# Altium integrated library A_Semi.IntLib: 68 symbols
Pins are listed as number, name and electrical type; pins without a type are passive.

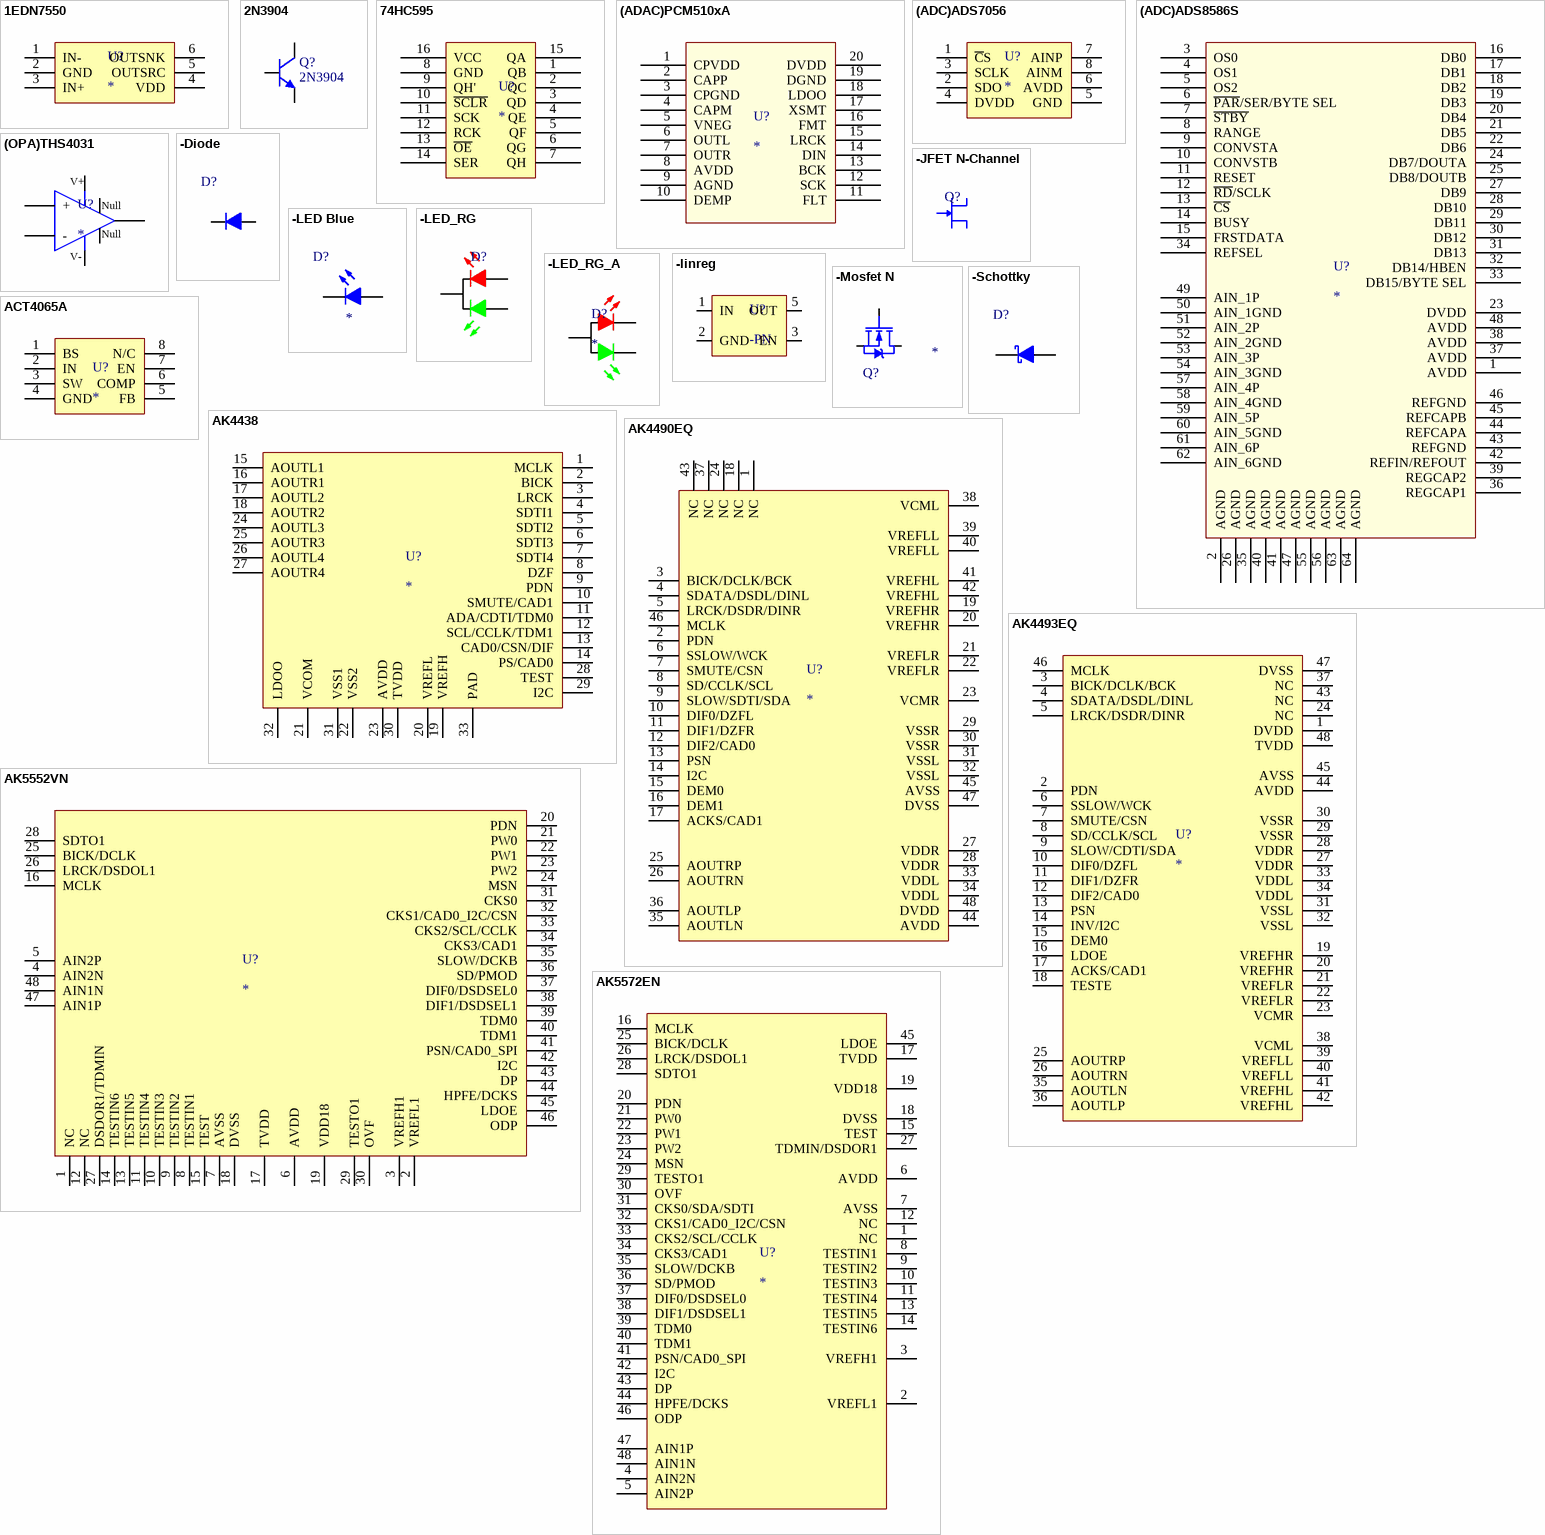
[diagram p0: symbols 1EDN7550 to AK5572EN]

## 1EDN7550
designator U?
footprint SOT23-6 (SOT23, 6-Leads, Body 2.90x2.80mm, Pitch 0.95mm, IPC Medium Density)
pins: 1 IN-, 2 GND, 3 IN+, 4 VDD, 5 OUTSRC, 6 OUTSNK

## 2N3904
designator Q?
NPN General Purpose Amplifier; Published: 8-Jun-2000; LatestRevisionDate: 15-Jan-2003; LatestRevisionNote: PCB Footprint 'BCY-W3/D4.7' replaced; DatasheetVersion: 1997; PackageVersion: Sep-1998; PackageReference: TO-92A; Publisher: Altium Limited; PackageDescription: TO, Flat Index; 3 In-Line, Axial Leads; Body Dia. 4.5mm; Leads 0.51 x 0.48 mm (max); ComponentLink1Description: Manufacturer Link; ComponentLink1URL: http://www.fairchildsemi.com/; ComponentLink2Description: Datasheet; ComponentLink2URL: http://www.fairchildsemi.com/ds/2N%2F2N3904.pdf
footprint TO-92A (TO, Flat Index; 3 In-Line, Axial Leads; Body Dia. 4.5mm; Leads 0.51 x 0.48 mm (max))
simulation model 2N3904 (NPN)
signal-integrity model 2N3904
footprint SOT95P245X110-3N (SOT23, 3-Leads, Body 2.90x2.45mm, Pitch 0.95mm, IPC Medium Density)
pins: 1 B, 2 E, 3 C

## 74HC595
designator U?
footprint SOIC127P600X175-16N (SOIC, 16-Leads, Body 9.90x3.90mm, Pitch 1.27mm, IPC Medium Density)
pins: 1 QB, 2 QC, 3 QD, 4 QE, 5 QF, 6 QG, 7 QH, 8 GND, 9 QH', 10 ~{SCLR}, 11 SCK, 12 RCK, 13 ~{OE}, 14 SER, 15 QA, 16 VCC

## (ADAC)PCM510xA
designator U?
footprint 20TSSOP
pins: 1 CPVDD, 2 CAPP, 3 CPGND, 4 CAPM, 5 VNEG, 6 OUTL, 7 OUTR, 8 AVDD, 9 AGND, 10 DEMP, 11 FLT, 12 SCK, 13 BCK, 14 DIN, 15 LRCK, 16 FMT, 17 XSMT, 18 LDOO, 19 DGND, 20 DVDD

## (ADC)ADS7056
designator U?
pins: 1 ~{C}S, 2 SDO, 3 SCLK, 4 DVDD, 5 GND, 6 AVDD, 7 AINP, 8 AINM

## (ADC)ADS8586S
designator U?
footprint 64QFP
pins: 1 AVDD, 2 AGND, 3 OS0, 4 OS1, 5 OS2, 6 ~{PAR}/SER/BYTE SEL, 7 ~{STBY}, 8 RANGE, 9 CONVSTA, 10 CONVSTB, 11 RESET, 12 ~{RD}/SCLK, 13 ~{CS}, 14 BUSY, 15 FRSTDATA, 16 DB0, 17 DB1, 18 DB2, 19 DB3, 20 DB4, 21 DB5, 22 DB6, 23 DVDD, 24 DB7/DOUTA, 25 DB8/DOUTB, 26 AGND, 27 DB9, 28 DB10, 29 DB11, 30 DB12, 31 DB13, 32 DB14/HBEN, 33 DB15/BYTE SEL, 34 REFSEL, 35 AGND, 36 REGCAP1, 37 AVDD, 38 AVDD, 39 REGCAP2, 40 AGND, 41 AGND, 42 REFIN/REFOUT, 43 REFGND, 44 REFCAPA, 45 REFCAPB, 46 REFGND, 47 AGND, 48 AVDD, 49 AIN_1P, 50 AIN_1GND, 51 AIN_2P, 52 AIN_2GND, 53 AIN_3P, 54 AIN_3GND, 55 AGND, 56 AGND, 57 AIN_4P, 58 AIN_4GND, 59 AIN_5P, 60 AIN_5GND, 61 AIN_6P, 62 AIN_6GND, 63 AGND, 64 AGND

## (OPA)THS4031
designator U?
pins: 1, 2 -, 3 +, 4, 6, 7, 8
text: V+; Null; V-

## -Diode
designator D?
Generic Diode; Label: *
footprint SMini2-F5-B (Diode) (Panasonic Schottky Diode)
footprint SOD80 (MiniMELF)
footprint DO204
pins: 1 K, 2 A

## -JFET N-Channel
designator Q?
footprint SOT95P245X110-3N (SOT23, 3-Leads, Body 2.90x2.45mm, Pitch 0.95mm, IPC Medium Density)
pins: 1 D, 2 S, 3 G

## -LED Blue
designator D?
Label: *
footprint LTL1CHTBK5
pins: 1 A, 2 K

## -LED_RG
designator D?
R,G LED; Label: *
footprint LTL1BEKVJNN (Common Cathode R/G LED)
pins: 1 A, 2 K, 3 A

## -LED_RG_A
designator D?
footprint LTST-S326KGJRKT
pins: 1 K, 2 K, 3 A

## -linreg
designator U?, comment -PN
PN: *
footprint SOT23-5 (SOT23, 5-Leads, Body 2.90x2.80mm, Pitch 0.95mm, IPC Medium Density)
pins: 1 IN, 2 GND, 3 EN, 5 OUT

## -Mosfet N
designator Q?
N-Channel Mosfet; Value: *
footprint SOT95P245X110-3N (SOT23, 3-Leads, Body 2.90x2.45mm, Pitch 0.95mm, IPC Medium Density)
footprint SOT23-3
pins: 1 G, 2 S, 3 D

## -Schottky
designator D?
Generic Diode; Label: *
footprint SMini2-F5-B (Diode) (Panasonic Schottky Diode)
pins: 1 K, 2 A

## ACT4065A
designator U?
footprint SOIC127P600X175-8N (SOIC, 8-Leads, Body 4.95x3.90mm, Pitch 1.27mm, IPC Medium Density)
pins: 1 BS, 2 IN, 3 SW, 4 GND, 5 FB, 6 COMP, 7 EN, 8 N/C

## AK4438
designator U?
footprint QFN50P500X500X80_HS-33M (QFN, 32-Leads, Body 5.00x5.00mm, Pitch 0.50mm, Thermal Pad 3.50x3.50mm, IPC Low Density)
pins: 1 MCLK, 2 BICK, 3 LRCK, 4 SDTI1, 5 SDTI2, 6 SDTI3, 7 SDTI4, 8 DZF, 9 PDN, 10 SMUTE/CAD1, 11 ADA/CDTI/TDM0, 12 SCL/CCLK/TDM1, 13 CAD0/CSN/DIF, 14 PS/CAD0, 15 AOUTL1, 16 AOUTR1, 17 AOUTL2, 18 AOUTR2, 19 VREFH, 20 VREFL, 21 VCOM, 22 VSS2, 23 AVDD, 24 AOUTL3, 25 AOUTR3, 26 AOUTL4, 27 AOUTR4, 28 TEST, 29 I2C, 30 TVDD, 31 VSS1, 32 LDOO, 33 PAD

## AK4490EQ
designator U?
footprint QFN50P700X700X85_HS-49M-noTH (QFN, 48-Leads, Body 7.00x7.00mm, Pitch 0.50mm, Thermal Pad 5.10x5.10mm, IPC Low Density)
pins: 1 NC, 2 PDN, 3 BICK/DCLK/BCK, 4 SDATA/DSDL/DINL, 5 LRCK/DSDR/DINR, 6 SSLOW/WCK, 7 SMUTE/CSN, 8 SD/CCLK/SCL, 9 SLOW/SDTI/SDA, 10 DIF0/DZFL, 11 DIF1/DZFR, 12 DIF2/CAD0, 13 PSN, 14 I2C, 15 DEM0, 16 DEM1, 17 ACKS/CAD1, 18 NC, 19 VREFHR, 20 VREFHR, 21 VREFLR, 22 VREFLR, 23 VCMR, 24 NC, 25 AOUTRP, 26 AOUTRN, 27 VDDR, 28 VDDR, 29 VSSR, 30 VSSR, 31 VSSL, 32 VSSL, 33 VDDL, 34 VDDL, 35 AOUTLN, 36 AOUTLP, 37 NC, 38 VCML, 39 VREFLL, 40 VREFLL, 41 VREFHL, 42 VREFHL, 43 NC, 44 AVDD, 45 AVSS, 46 MCLK, 47 DVSS, 48 DVDD

## AK4493EQ
designator U?
footprint QFP127P600-8N
pins: 1 DVDD, 2 PDN, 3 BICK/DCLK/BCK, 4 SDATA/DSDL/DINL, 5 LRCK/DSDR/DINR, 6 SSLOW/WCK, 7 SMUTE/CSN, 8 SD/CCLK/SCL, 9 SLOW/CDTI/SDA, 10 DIF0/DZFL, 11 DIF1/DZFR, 12 DIF2/CAD0, 13 PSN, 14 INV/I2C, 15 DEM0, 16 LDOE, 17 ACKS/CAD1, 18 TESTE, 19 VREFHR, 20 VREFHR, 21 VREFLR, 22 VREFLR, 23 VCMR, 24 NC, 25 AOUTRP, 26 AOUTRN, 27 VDDR, 28 VDDR, 29 VSSR, 30 VSSR, 31 VSSL, 32 VSSL, 33 VDDL, 34 VDDL, 35 AOUTLN, 36 AOUTLP, 37 NC, 38 VCML, 39 VREFLL, 40 VREFLL, 41 VREFHL, 42 VREFHL, 43 NC, 44 AVDD, 45 AVSS, 46 MCLK, 47 DVSS, 48 TVDD

## AK5552VN
designator U?
footprint QFN50P700X700X85_HS-49M (QFN, 48-Leads, Body 7.00x7.00mm, Pitch 0.50mm, Thermal Pad 5.10x5.10mm, IPC Low Density)
pins: 1 NC, 2 VREFL1, 3 VREFH1, 4 AIN2N, 5 AIN2P, 6 AVDD, 7 AVSS, 8 TESTIN1, 9 TESTIN2, 10 TESTIN3, 11 TESTIN4, 12 NC, 13 TESTIN5, 14 TESTIN6, 15 TEST, 16 MCLK, 17 TVDD, 18 DVSS, 19 VDD18, 20 PDN, 21 PW0, 22 PW1, 23 PW2, 24 MSN, 25 BICK/DCLK, 26 LRCK/DSDOL1, 27 DSDOR1/TDMIN, 28 SDTO1, 29 TESTO1, 30 OVF, 31 CKS0, 32 CKS1/CAD0_I2C/CSN, 33 CKS2/SCL/CCLK, 34 CKS3/CAD1, 35 SLOW/DCKB, 36 SD/PMOD, 37 DIF0/DSDSEL0, 38 DIF1/DSDSEL1, 39 TDM0, 40 TDM1, 41 PSN/CAD0_SPI, 42 I2C, 43 DP, 44 HPFE/DCKS, 45 LDOE, 46 ODP, 47 AIN1P, 48 AIN1N

## AK5572EN
designator U?
footprint QFN50P700X700X85_HS-49M (QFN, 48-Leads, Body 7.00x7.00mm, Pitch 0.50mm, Thermal Pad 5.10x5.10mm, IPC Low Density)
pins: 1 NC, 2 VREFL1, 3 VREFH1, 4 AIN2N, 5 AIN2P, 6 AVDD, 7 AVSS, 8 TESTIN1, 9 TESTIN2, 10 TESTIN3, 11 TESTIN4, 12 NC, 13 TESTIN5, 14 TESTIN6, 15 TEST, 16 MCLK, 17 TVDD, 18 DVSS, 19 VDD18, 20 PDN, 21 PW0, 22 PW1, 23 PW2, 24 MSN, 25 BICK/DCLK, 26 LRCK/DSDOL1, 27 TDMIN/DSDOR1, 28 SDTO1, 29 TESTO1, 30 OVF, 31 CKS0/SDA/SDTI, 32 CKS1/CAD0_I2C/CSN, 33 CKS2/SCL/CCLK, 34 CKS3/CAD1, 35 SLOW/DCKB, 36 SD/PMOD, 37 DIF0/DSDSEL0, 38 DIF1/DSDSEL1, 39 TDM0, 40 TDM1, 41 PSN/CAD0_SPI, 42 I2C, 43 DP, 44 HPFE/DCKS, 45 LDOE, 46 ODP, 47 AIN1P, 48 AIN1N

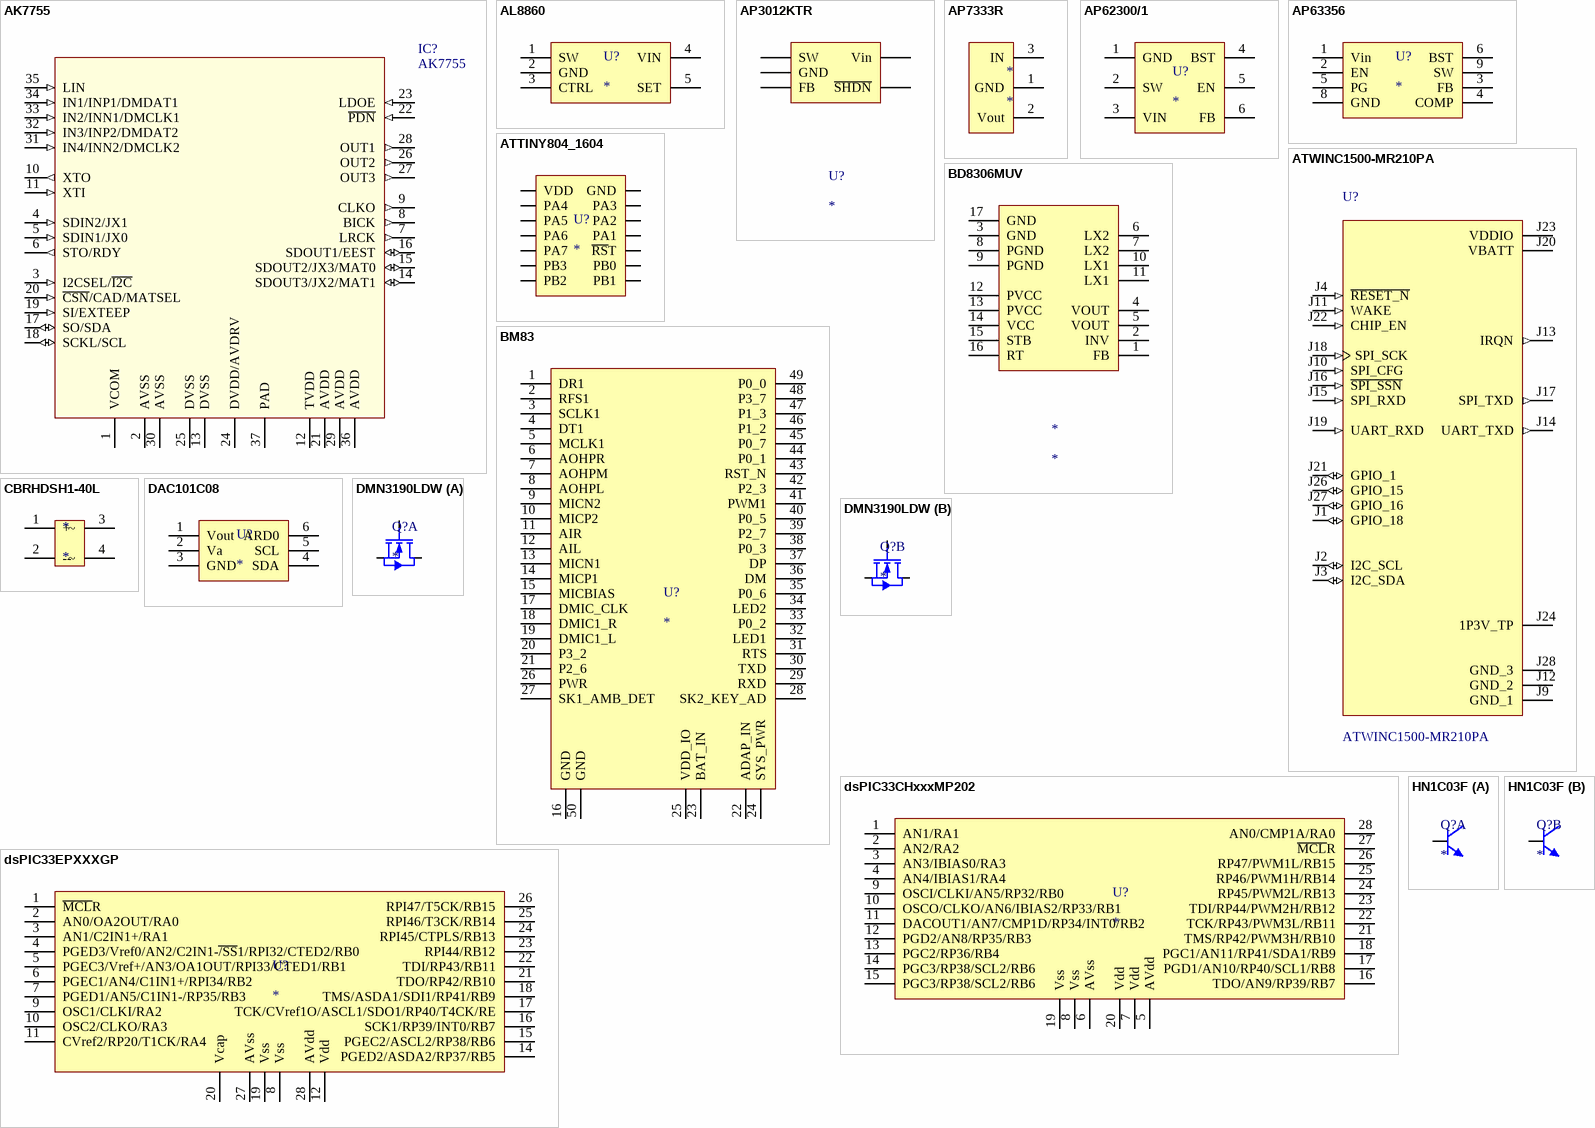
[diagram p1: symbols AK7755 to HN1C03F]

## AK7755
designator IC?
footprint QFN50P588X588X100_HS-37N (QFN, 36-Leads, Body 5.88x5.88mm, Pitch 0.50mm, Thermal Pad 4.10x4.10mm, IPC Medium Density)
pins: 1 VCOM, 2 AVSS (power), 3 I2CSEL/~{I2C} (in), 4 SDIN2/JX1 (in), 5 SDIN1/JX0 (in), 6 STO/RDY (out), 7 LRCK (out), 8 BICK (out), 9 CLKO (out), 10 XTO (out), 11 XTI (in), 12 TVDD (power), 13 DVSS (power), 14 SDOUT3/JX2/MAT1 (io), 15 SDOUT2/JX3/MAT0 (io), 16 SDOUT1/EEST (io), 17 SO/SDA (io), 18 SCKL/SCL (io), 19 SI/EXTEEP (in), 20 ~{CSN}/CAD/MATSEL (in), 21 AVDD (power), 22 ~{PDN} (in), 23 LDOE (in), 24 DVDD/AVDRV, 25 DVSS (power), 26 OUT2 (out), 27 OUT3 (out), 28 OUT1 (out), 29 AVDD (power), 30 AVSS (power), 31 IN4/INN2/DMCLK2 (in), 32 IN3/INP2/DMDAT2 (in), 33 IN2/INN1/DMCLK1 (in), 34 IN1/INP1/DMDAT1 (in), 35 LIN (in), 36 AVDD (power), 37 PAD (power)

## AL8860
designator U?
LED Driver 40V 1-1.5A
footprint SOT23-5 (SOT23, 5-Leads, Body 2.90x2.80mm, Pitch 0.95mm, IPC Medium Density)
pins: 1 SW, 2 GND, 3 CTRL, 4 VIN, 5 SET

## AP3012KTR
designator U?
footprint SOT23-5 (SOT23, 5-Leads, Body 2.90x2.80mm, Pitch 0.95mm, IPC Medium Density)
pins: 1 SW, 2 GND, 3 FB, 4 ~{SHDN}, 5 Vin

## AP7333R
designator *
footprint SOT95P245X110-3N (SOT23, 3-Leads, Body 2.90x2.45mm, Pitch 0.95mm, IPC Medium Density)
pins: 1 GND, 2 Vout, 3 IN

## AP62300/1
designator U?
footprint SOT23-6 (SOT23, 6-Leads, Body 2.90x2.80mm, Pitch 0.95mm, IPC Medium Density)
pins: 1 GND, 2 SW, 3 VIN, 4 BST, 5 EN, 6 FB

## AP63356
designator U?
footprint V-DFN3020-13
pins: 1 Vin, 2 EN, 3 FB, 4 COMP, 5 PG, 6 BST, 8 GND, 9 SW

## ATTINY804_1604
designator U?
footprint SOIC14
pins: 1 VDD, 2 PA4, 3 PA5, 4 PA6, 5 PA7, 6 PB3, 7 PB2, 8 PB1, 9 PB0, 10 ~{RS}T, 11 PA1, 12 PA2, 13 PA3, 14 GND

## ATWINC1500-MR210PA
designator U?
BuyPart: https://www.snapeda.com/parts/ATWINC1500-MR210PA/Atmel/view-part/4796385/?ref=eda; SnapEDA_Link: https://www.snapeda.com/parts/ATWINC1500-MR210PA/Atmel/view-part/4796385/?ref=snap; Value: *
footprint ATMEL_ATWINC1500-MR210PA_ATWINC1500-MR210PA
pins: J1 GPIO_18 (io), J2 I2C_SCL (io), J3 I2C_SDA (io), J4 ~{RESET_N} (in), J9 GND_1, J10 SPI_CFG (in), J11 WAKE (in), J12 GND_2, J13 IRQN (out), J14 UART_TXD (out), J15 SPI_RXD (in), J16 ~{SPI_SSN} (in), J17 SPI_TXD (out), J18 SPI_SCK (in), J19 UART_RXD (in), J20 VBATT (power), J21 GPIO_1 (io), J22 CHIP_EN (in), J23 VDDIO (power), J24 1P3V_TP, J26 GPIO_15 (io), J27 GPIO_16 (io), J28 GND_3

## BD8306MUV
designator *
footprint QFN50P300X300X100_HS-17N (QFN, 16-Leads, Body 3.00x3.00mm, Pitch 0.50mm, Thermal Pad 1.40x1.40mm, IPC Medium Density)
pins: 1 FB, 2 INV, 3 GND, 4 VOUT, 5 VOUT, 6 LX2, 7 LX2, 8 PGND, 9 PGND, 10 LX1, 11 LX1, 12 PVCC, 13 PVCC, 14 VCC, 15 STB, 16 RT, 17 GND

## BM83
designator U?
footprint bm83
pins: 1 DR1, 2 RFS1, 3 SCLK1, 4 DT1, 5 MCLK1, 6 AOHPR, 7 AOHPM, 8 AOHPL, 9 MICN2, 10 MICP2, 11 AIR, 12 AIL, 13 MICN1, 14 MICP1, 15 MICBIAS, 16 GND, 17 DMIC_CLK, 18 DMIC1_R, 19 DMIC1_L, 20 P3_2, 21 P2_6, 22 ADAP_IN, 23 BAT_IN, 24 SYS_PWR, 25 VDD_IO, 26 PWR, 27 SK1_AMB_DET, 28 SK2_KEY_AD, 29 RXD, 30 TXD, 31 RTS, 32 LED1, 33 P0_2, 34 LED2, 35 P0_6, 36 DM, 37 DP, 38 P0_3, 39 P2_7, 40 P0_5, 41 PWM1, 42 P2_3, 43 RST_N, 44 P0_1, 45 P0_7, 46 P1_2, 47 P1_3, 48 P3_7, 49 P0_0, 50 GND

## CBRHDSH1-40L
designator *
footprint HDDIP(Rectifier)
pins: 1 +, 2 --, 3 ~, 4 ~

## DAC101C08
designator U?
footprint SOT23-6 (SOT23, 6-Leads, Body 2.90x2.80mm, Pitch 0.95mm, IPC Medium Density)
pins: 1 Vout, 2 Va, 3 GND, 4 SDA, 5 SCL, 6 ARD0

## DMN3190LDW
designator Q?
footprint SOT65P210X110-6N (SOT23, 6-Leads, Body 1.98x2.10mm, Pitch 0.65mm, IPC Medium Density)
part A pins: 3 D, 4 S, 5 G
part B pins: 1 S, 2 G, 6 D

## dsPIC33CHxxxMP202
designator U?
pins: 1 AN1/RA1, 2 AN2/RA2, 3 AN3/IBIAS0/RA3, 4 AN4/IBIAS1/RA4, 5 AVdd, 6 AVss, 7 Vdd, 8 Vss, 9 OSCI/CLKI/AN5/RP32/RB0, 10 OSCO/CLKO/AN6/IBIAS2/RP33/RB1, 11 DACOUT1/AN7/CMP1D/RP34/INT0/RB2, 12 PGD2/AN8/RP35/RB3, 13 PGC2/RP36/RB4, 14 PGC3/RP38/SCL2/RB6, 15 PGC3/RP38/SCL2/RB6, 16 TDO/AN9/RP39/RB7, 17 PGD1/AN10/RP40/SCL1/RB8, 18 PGC1/AN11/RP41/SDA1/RB9, 19 Vss, 20 Vdd, 21 TMS/RP42/PWM3H/RB10, 22 TCK/RP43/PWM3L/RB11, 23 TDI/RP44/PWM2H/RB12, 24 RP45/PWM2L/RB13, 25 RP46/PWM1H/RB14, 26 RP47/PWM1L/RB15, 27 ~{MCL}R, 28 AN0/CMP1A/RA0

## dsPIC33EPXXXGP
designator U?
pins: 1 ~{MCL}R, 2 AN0/OA2OUT/RA0, 3 AN1/C2IN1+/RA1, 4 PGED3/Vref0/AN2/C2IN1-~{/SS}1/RPI32/CTED2/RB0, 5 PGEC3/Vref+/AN3/OA1OUT/RPI33/CTED1/RB1, 6 PGEC1/AN4/C1IN1+/RPI34/RB2, 7 PGED1/AN5/C1IN1-/RP35/RB3, 8 Vss, 9 OSC1/CLKI/RA2, 10 OSC2/CLKO/RA3, 11 CVref2/RP20/T1CK/RA4, 12 Vdd, 14 PGED2/ASDA2/RP37/RB5, 15 PGEC2/ASCL2/RP38/RB6, 16 SCK1/RP39/INT0/RB7, 17 TCK/CVref1O/ASCL1/SDO1/RP40/T4CK/RE, 18 TMS/ASDA1/SDI1/RP41/RB9, 19 Vss, 20 Vcap, 21 TDO/RP42/RB10, 22 TDI/RP43/RB11, 23 RPI44/RB12, 24 RPI45/CTPLS/RB13, 25 RPI46/T3CK/RB14, 26 RPI47/T5CK/RB15, 27 AVss, 28 AVdd

## HN1C03F
designator Q?
Duel npn bjt muting transistor
footprint SOT-363-6 (SC70-60)
footprint SOT23-6 (SOT23, 6-Leads, Body 2.90x2.80mm, Pitch 0.95mm, IPC Medium Density)
part A pins: 1 E, 2 B, 6 C
part B pins: 3 C, 4 E, 5 B

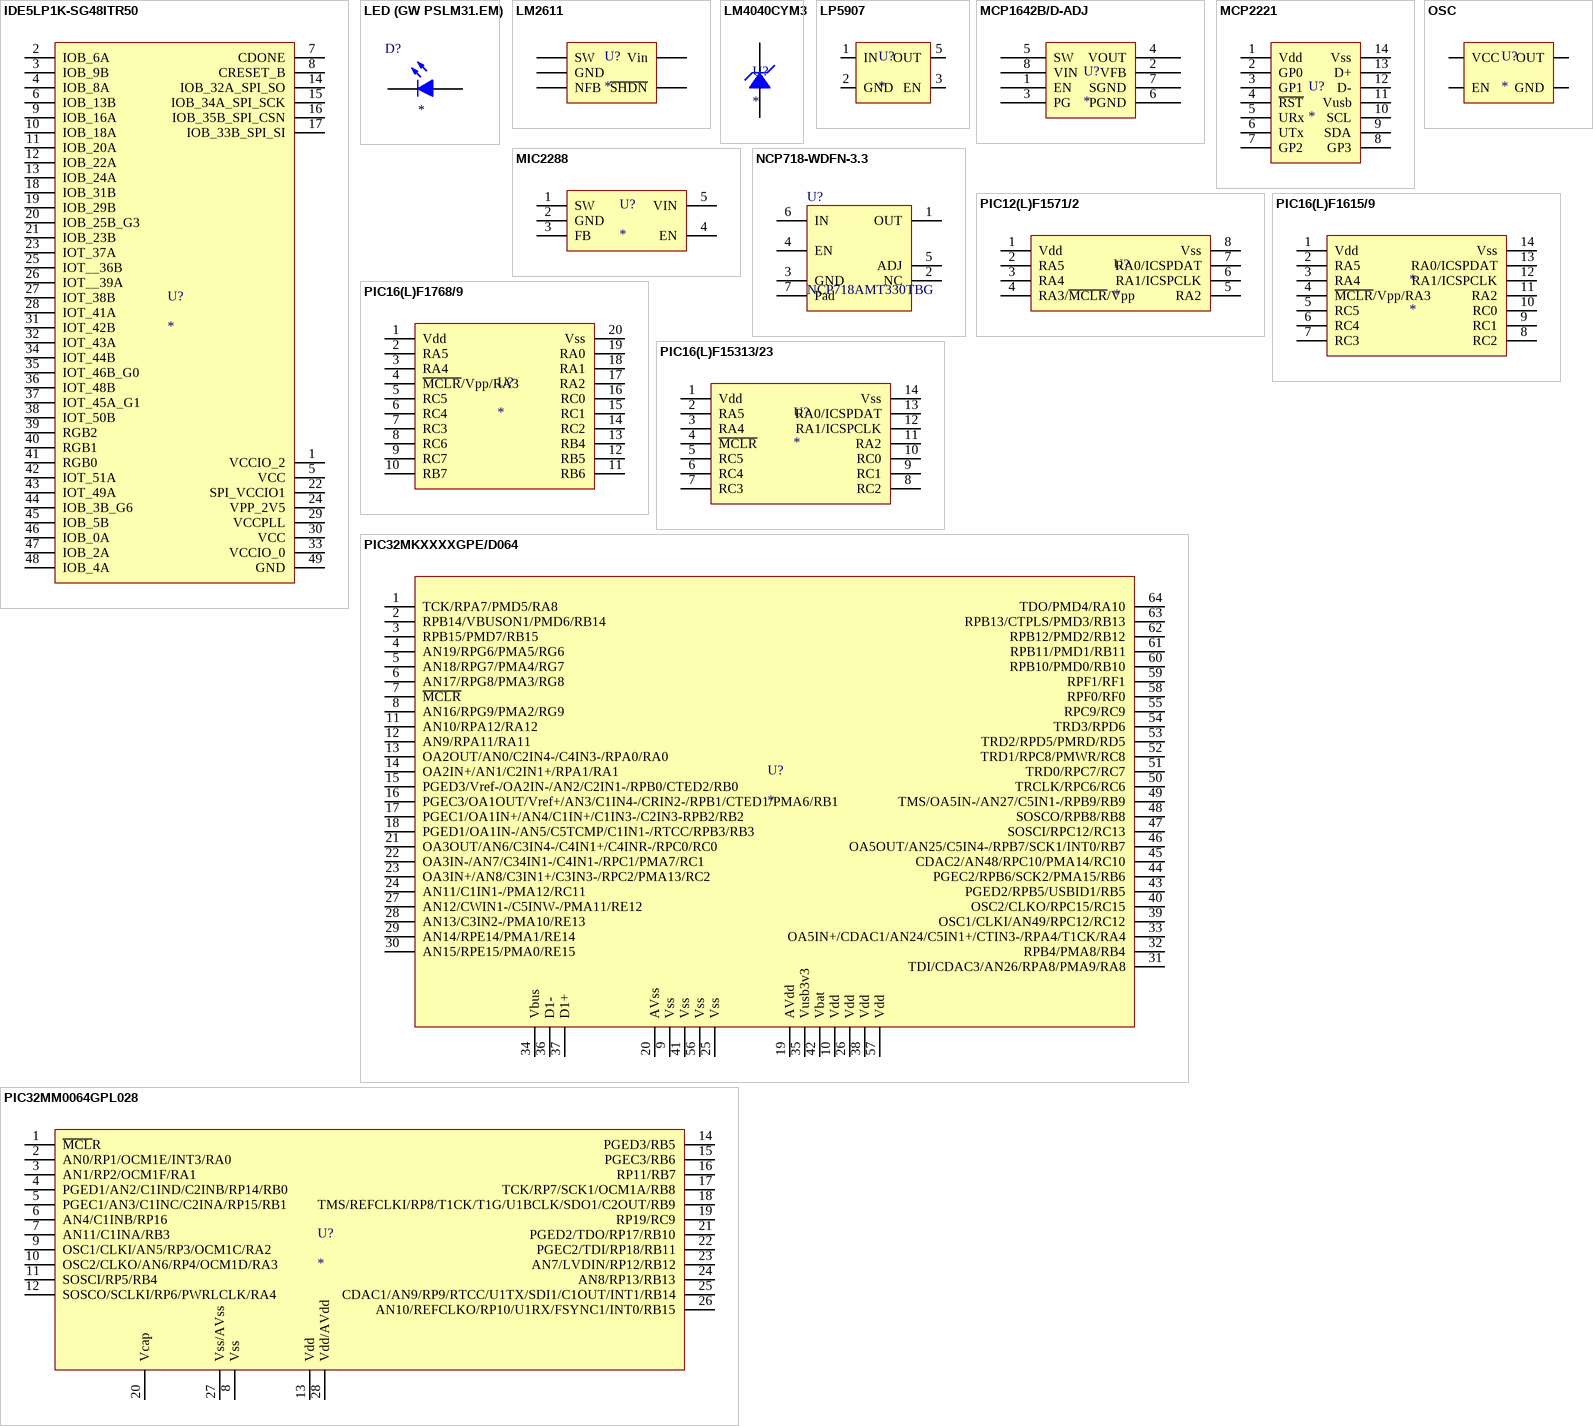
[diagram p2: symbols IDE5LP1K-SG48ITR50 to PIC32MM0064GPL028]

## IDE5LP1K-SG48ITR50
designator U?
footprint QFN50P700X700X85_HS-49M (QFN, 48-Leads, Body 7.00x7.00mm, Pitch 0.50mm, Thermal Pad 5.10x5.10mm, IPC Low Density)
footprint QFN50P700X700X85_HS-49M-noTH (QFN, 48-Leads, Body 7.00x7.00mm, Pitch 0.50mm, Thermal Pad 5.10x5.10mm, IPC Low Density)
footprint QFN50P700X700X85_HS-49M-pad (QFN, 48-Leads, Body 7.00x7.00mm, Pitch 0.50mm, Thermal Pad 5.10x5.10mm, IPC Low Density)
pins: 1 VCCIO_2, 2 IOB_6A, 3 IOB_9B, 4 IOB_8A, 5 VCC, 6 IOB_13B, 7 CDONE, 8 CRESET_B, 9 IOB_16A, 10 IOB_18A, 11 IOB_20A, 12 IOB_22A, 13 IOB_24A, 14 IOB_32A_SPI_SO, 15 IOB_34A_SPI_SCK, 16 IOB_35B_SPI_CSN, 17 IOB_33B_SPI_SI, 18 IOB_31B, 19 IOB_29B, 20 IOB_25B_G3, 21 IOB_23B, 22 SPI_VCCIO1, 23 IOT_37A, 24 VPP_2V5, 25 IOT__36B, 26 IOT__39A, 27 IOT_38B, 28 IOT_41A, 29 VCCPLL, 30 VCC, 31 IOT_42B, 32 IOT_43A, 33 VCCIO_0, 34 IOT_44B, 35 IOT_46B_G0, 36 IOT_48B, 37 IOT_45A_G1, 38 IOT_50B, 39 RGB2, 40 RGB1, 41 RGB0, 42 IOT_51A, 43 IOT_49A, 44 IOB_3B_G6, 45 IOB_5B, 46 IOB_0A, 47 IOB_2A, 48 IOB_4A, 49 GND

## LED (GW PSLM31.EM)
designator D?
DURIS s 5 White OSRAM; Label: *
footprint LED 1212 GW PSLM32.EM (LED DURIS S5 COOL WHT 6500K SMD)
pins: 1 K, 2 A

## LM2611
designator U?
footprint SOT23-5 (SOT23, 5-Leads, Body 2.90x2.80mm, Pitch 0.95mm, IPC Medium Density)
pins: 1 SW, 2 GND, 3 NFB, 4 ~{SHDN}, 5 Vin

## LM4040CYM3
designator U?
footprint SOT95P245X110-3N (SOT23, 3-Leads, Body 2.90x2.45mm, Pitch 0.95mm, IPC Medium Density)
pins: 1 +, 2

## LP5907
designator U?
Value: *
footprint SOT23-5 (SOT23, 5-Leads, Body 2.90x2.80mm, Pitch 0.95mm, IPC Medium Density)
pins: 1 IN, 2 GND, 3 EN, 5 OUT

## MCP1642B/D-ADJ
designator U?
footprint MSOP8
pins: 1 EN, 2 VFB, 3 PG, 4 VOUT, 5 SW, 6 PGND, 7 SGND, 8 VIN

## MCP2221
designator U?
footprint SOIC14
pins: 1 Vdd, 2 GP0, 3 GP1, 4 ~{RST}, 5 URx, 6 UTx, 7 GP2, 8 GP3, 9 SDA, 10 SCL, 11 Vusb, 12 D-, 13 D+, 14 Vss

## MIC2288
designator U?
footprint SOT23-5 (SOT23, 5-Leads, Body 2.90x2.80mm, Pitch 0.95mm, IPC Medium Density)
pins: 1 SW, 2 GND, 3 FB, 4 EN, 5 VIN

## NCP718-WDFN-3.3
designator U?, comment NCP718AMT330TBG
3.3V, Low IQ, LDO, 24V, 300 mA, WDFN-6; Value: NCP718AMT330TBG; Supplier 1: Mouser; Supplier Part Number 1: 863-NCP718AMT330TBG
footprint SON65P200X100_HS-7N (SON, 6-Leads, Body 2.00x2.00mm, Pitch 0.65mm, Thermal Pad 1.60x0.78mm, IPC Medium Density)
pins: 1 OUT (power), 2 NC (power), 3 GND (power), 4 EN (power), 5 ADJ (power), 6 IN (power), 7 Pad (power)

## OSC
designator U?
footprint OSC
pins: 1 EN, 2 GND, 3 OUT, 4 VCC

## PIC12(L)F1571/2
designator U?
footprint SOIC127P600X175-8N (SOIC, 8-Leads, Body 4.95x3.90mm, Pitch 1.27mm, IPC Medium Density)
pins: 1 Vdd, 2 RA5, 3 RA4, 4 RA3/~{MCLR}/Vpp, 5 RA2, 6 RA1/ICSPCLK, 7 RA0/ICSPDAT, 8 Vss

## PIC16(L)F1615/9
designator *
pins: 1 Vdd, 2 RA5, 3 RA4, 4 ~{MCLR}/Vpp/RA3, 5 RC5, 6 RC4, 7 RC3, 8 RC2, 9 RC1, 10 RC0, 11 RA2, 12 RA1/ICSPCLK, 13 RA0/ICSPDAT, 14 Vss

## PIC16(L)F1768/9
designator U?
footprint SOIC20
pins: 1 Vdd, 2 RA5, 3 RA4, 4 ~{MCLR}/Vpp/RA3, 5 RC5, 6 RC4, 7 RC3, 8 RC6, 9 RC7, 10 RB7, 11 RB6, 12 RB5, 13 RB4, 14 RC2, 15 RC1, 16 RC0, 17 RA2, 18 RA1, 19 RA0, 20 Vss

## PIC16(L)F15313/23
designator U?
footprint SOIC14
pins: 1 Vdd, 2 RA5, 3 RA4, 4 ~{MCLR}, 5 RC5, 6 RC4, 7 RC3, 8 RC2, 9 RC1, 10 RC0, 11 RA2, 12 RA1/ICSPCLK, 13 RA0/ICSPDAT, 14 Vss

## PIC32MKXXXXGPE/D064
designator U?
footprint TSQFP50P1200X1200X120-64M (TSQFP, 64-Leads, Body 10.00x10.00mm, Pitch 0.50mm, IPC Low Density)
pins: 1 TCK/RPA7/PMD5/RA8, 2 RPB14/VBUSON1/PMD6/RB14, 3 RPB15/PMD7/RB15, 4 AN19/RPG6/PMA5/RG6, 5 AN18/RPG7/PMA4/RG7, 6 AN17/RPG8/PMA3/RG8, 7 ~{MCLR}, 8 AN16/RPG9/PMA2/RG9, 9 Vss, 10 Vdd, 11 AN10/RPA12/RA12, 12 AN9/RPA11/RA11, 13 OA2OUT/AN0/C2IN4-/C4IN3-/RPA0/RA0, 14 OA2IN+/AN1/C2IN1+/RPA1/RA1, 15 PGED3/Vref-/OA2IN-/AN2/C2IN1-/RPB0/CTED2/RB0, 16 PGEC3/OA1OUT/Vref+/AN3/C1IN4-/CRIN2-/RPB1/CTED1/PMA6/RB1, 17 PGEC1/OA1IN+/AN4/C1IN+/C1IN3-/C2IN3-RPB2/RB2, 18 PGED1/OA1IN-/AN5/C5TCMP/C1IN1-/RTCC/RPB3/RB3, 19 AVdd, 20 AVss, 21 OA3OUT/AN6/C3IN4-/C4IN1+/C4INR-/RPC0/RC0, 22 OA3IN-/AN7/C34IN1-/C4IN1-/RPC1/PMA7/RC1, 23 OA3IN+/AN8/C3IN1+/C3IN3-/RPC2/PMA13/RC2, 24 AN11/C1IN1-/PMA12/RC11, 25 Vss, 26 Vdd, 27 AN12/CWIN1-/C5INW-/PMA11/RE12, 28 AN13/C3IN2-/PMA10/RE13, 29 AN14/RPE14/PMA1/RE14, 30 AN15/RPE15/PMA0/RE15, 31 TDI/CDAC3/AN26/RPA8/PMA9/RA8, 32 RPB4/PMA8/RB4, 33 OA5IN+/CDAC1/AN24/C5IN1+/CTIN3-/RPA4/T1CK/RA4, 34 Vbus, 35 Vusb3v3, 36 D1-, 37 D1+, 38 Vdd, 39 OSC1/CLKI/AN49/RPC12/RC12, 40 OSC2/CLKO/RPC15/RC15, 41 Vss, 42 Vbat, 43 PGED2/RPB5/USBID1/RB5, 44 PGEC2/RPB6/SCK2/PMA15/RB6, 45 CDAC2/AN48/RPC10/PMA14/RC10, 46 OA5OUT/AN25/C5IN4-/RPB7/SCK1/INT0/RB7, 47 SOSCI/RPC12/RC13, 48 SOSCO/RPB8/RB8, 49 TMS/OA5IN-/AN27/C5IN1-/RPB9/RB9, 50 TRCLK/RPC6/RC6, 51 TRD0/RPC7/RC7, 52 TRD1/RPC8/PMWR/RC8, 53 TRD2/RPD5/PMRD/RD5, 54 TRD3/RPD6, 55 RPC9/RC9, 56 Vss, 57 Vdd, 58 RPF0/RF0, 59 RPF1/RF1, 60 RPB10/PMD0/RB10, 61 RPB11/PMD1/RB11, 62 RPB12/PMD2/RB12, 63 RPB13/CTPLS/PMD3/RB13, 64 TDO/PMD4/RA10

## PIC32MM0064GPL028
designator U?
footprint SOIC127P1100X265-28N (SOIC, 28-Leads, Body 17.90x7.40mm, Pitch 1.27mm, IPC Medium Density)
pins: 1 ~{MCL}R, 2 AN0/RP1/OCM1E/INT3/RA0, 3 AN1/RP2/OCM1F/RA1, 4 PGED1/AN2/C1IND/C2INB/RP14/RB0, 5 PGEC1/AN3/C1INC/C2INA/RP15/RB1, 6 AN4/C1INB/RP16, 7 AN11/C1INA/RB3, 8 Vss, 9 OSC1/CLKI/AN5/RP3/OCM1C/RA2, 10 OSC2/CLKO/AN6/RP4/OCM1D/RA3, 11 SOSCI/RP5/RB4, 12 SOSCO/SCLKI/RP6/PWRLCLK/RA4, 13 Vdd, 14 PGED3/RB5, 15 PGEC3/RB6, 16 RP11/RB7, 17 TCK/RP7/SCK1/OCM1A/RB8, 18 TMS/REFCLKI/RP8/T1CK/T1G/U1BCLK/SDO1/C2OUT/RB9, 19 RP19/RC9, 20 Vcap, 21 PGED2/TDO/RP17/RB10, 22 PGEC2/TDI/RP18/RB11, 23 AN7/LVDIN/RP12/RB12, 24 AN8/RP13/RB13, 25 CDAC1/AN9/RP9/RTCC/U1TX/SDI1/C1OUT/INT1/RB14, 26 AN10/REFCLKO/RP10/U1RX/FSYNC1/INT0/RB15, 27 Vss/AVss, 28 Vdd/AVdd

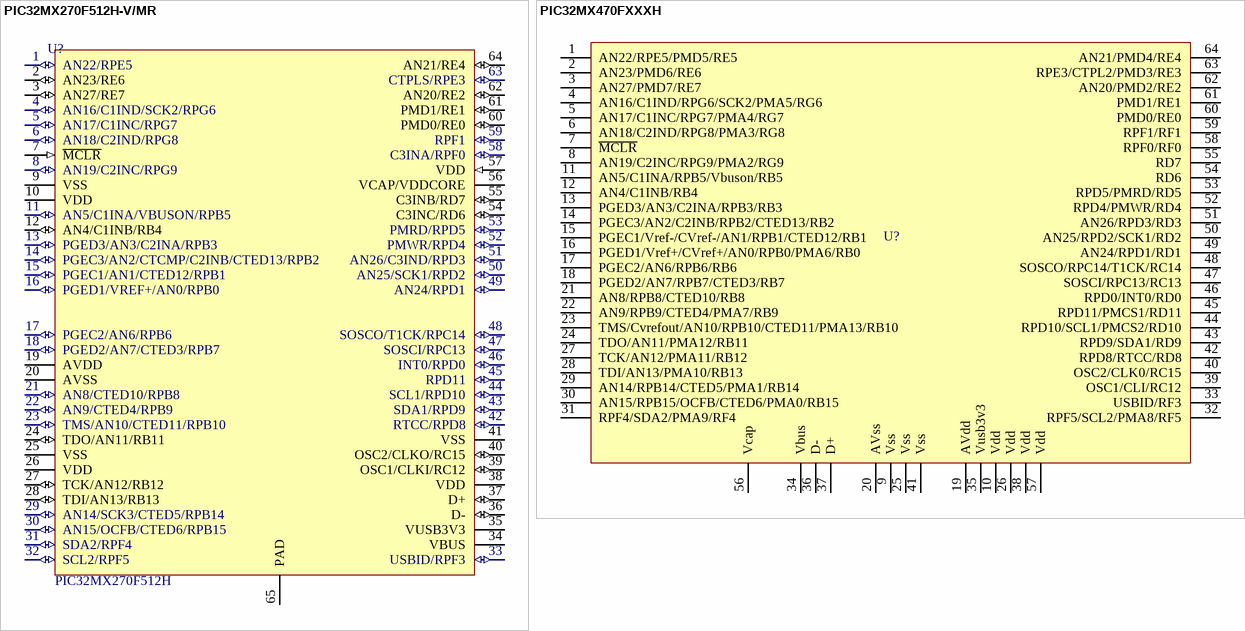
[diagram p3: symbols PIC32MX270F512H-V/MR to PIC32MX470FXXXH]

## PIC32MX270F512H-V/MR
designator U?, comment PIC32MX270F512H
32-bit PIC Microcontroller, 64-pin QFN, 105C; Supplier 1: Mouser; Supplier Part Number 1: 579-32MX270F512HV/MR; Value: PIC32MX270F512H
footprint QFN50P900X900X90_HS-65N (QFN, 64-Leads, Body 9.00x9.00mm, Pitch 0.50mm, Thermal Pad 5.40x5.40mm, IPC Medium Density)
pins: 1 AN22/RPE5 (io), 2 AN23/RE6 (io), 3 AN27/RE7 (io), 4 AN16/C1IND/SCK2/RPG6 (io), 5 AN17/C1INC/RPG7 (io), 6 AN18/C2IND/RPG8 (io), 7 ~{MCLR} (in), 8 AN19/C2INC/RPG9 (io), 9 VSS (power), 10 VDD (power), 11 AN5/C1INA/VBUSON/RPB5 (io), 12 AN4/C1INB/RB4 (io), 13 PGED3/AN3/C2INA/RPB3 (io), 14 PGEC3/AN2/CTCMP/C2INB/CTED13/RPB2 (io), 15 PGEC1/AN1/CTED12/RPB1 (io), 16 PGED1/VREF+/AN0/RPB0 (io), 17 PGEC2/AN6/RPB6 (io), 18 PGED2/AN7/CTED3/RPB7 (io), 19 AVDD (power), 20 AVSS (power), 21 AN8/CTED10/RPB8 (io), 22 AN9/CTED4/RPB9 (io), 23 TMS/AN10/CTED11/RPB10 (io), 24 TDO/AN11/RB11 (io), 25 VSS (power), 26 VDD (power), 27 TCK/AN12/RB12 (io), 28 TDI/AN13/RB13 (io), 29 AN14/SCK3/CTED5/RPB14 (io), 30 AN15/OCFB/CTED6/RPB15 (io), 31 SDA2/RPF4 (io), 32 SCL2/RPF5 (io), 33 USBID/RPF3 (io), 34 VBUS, 35 VUSB3V3 (power), 36 D- (io), 37 D+ (io), 38 VDD (power), 39 OSC1/CLKI/RC12 (io), 40 OSC2/CLKO/RC15 (io), 41 VSS (power), 42 RTCC/RPD8 (io), 43 SDA1/RPD9 (io), 44 SCL1/RPD10 (io), 45 RPD11 (io), 46 INT0/RPD0 (io), 47 SOSCI/RPC13 (io), 48 SOSCO/T1CK/RPC14 (io), 49 AN24/RPD1 (io), 50 AN25/SCK1/RPD2 (io), 51 AN26/C3IND/RPD3 (io), 52 PMWR/RPD4 (io), 53 PMRD/RPD5 (io), 54 C3INC/RD6 (io), 55 C3INB/RD7 (io), 56 VCAP/VDDCORE (power), 57 VDD (in), 58 C3INA/RPF0 (io), 59 RPF1 (io), 60 PMD0/RE0 (io), 61 PMD1/RE1 (io), 62 AN20/RE2 (io), 63 CTPLS/RPE3 (io), 64 AN21/RE4 (io), 65 PAD
1 alternate drawing of the same symbol

## PIC32MX470FXXXH
designator U?
footprint TSQFP50P1200X1200X120-64M (TSQFP, 64-Leads, Body 10.00x10.00mm, Pitch 0.50mm, IPC Low Density)
pins: 1 AN22/RPE5/PMD5/RE5, 2 AN23/PMD6/RE6, 3 AN27/PMD7/RE7, 4 AN16/C1IND/RPG6/SCK2/PMA5/RG6, 5 AN17/C1INC/RPG7/PMA4/RG7, 6 AN18/C2IND/RPG8/PMA3/RG8, 7 ~{MCLR}, 8 AN19/C2INC/RPG9/PMA2/RG9, 9 Vss, 10 Vdd, 11 AN5/C1INA/RPB5/Vbuson/RB5, 12 AN4/C1INB/RB4, 13 PGED3/AN3/C2INA/RPB3/RB3, 14 PGEC3/AN2/C2INB/RPB2/CTED13/RB2, 15 PGEC1/Vref-/CVref-/AN1/RPB1/CTED12/RB1, 16 PGED1/Vref+/CVref+/AN0/RPB0/PMA6/RB0, 17 PGEC2/AN6/RPB6/RB6, 18 PGED2/AN7/RPB7/CTED3/RB7, 19 AVdd, 20 AVss, 21 AN8/RPB8/CTED10/RB8, 22 AN9/RPB9/CTED4/PMA7/RB9, 23 TMS/Cvrefout/AN10/RPB10/CTED11/PMA13/RB10, 24 TDO/AN11/PMA12/RB11, 25 Vss, 26 Vdd, 27 TCK/AN12/PMA11/RB12, 28 TDI/AN13/PMA10/RB13, 29 AN14/RPB14/CTED5/PMA1/RB14, 30 AN15/RPB15/OCFB/CTED6/PMA0/RB15, 31 RPF4/SDA2/PMA9/RF4, 32 RPF5/SCL2/PMA8/RF5, 33 USBID/RF3, 34 Vbus, 35 Vusb3v3, 36 D-, 37 D+, 38 Vdd, 39 OSC1/CLI/RC12, 40 OSC2/CLK0/RC15, 41 Vss, 42 RPD8/RTCC/RD8, 43 RPD9/SDA1/RD9, 44 RPD10/SCL1/PMCS2/RD10, 45 RPD11/PMCS1/RD11, 46 RPD0/INT0/RD0, 47 SOSCI/RPC13/RC13, 48 SOSCO/RPC14/T1CK/RC14, 49 AN24/RPD1/RD1, 50 AN25/RPD2/SCK1/RD2, 51 AN26/RPD3/RD3, 52 RPD4/PMWR/RD4, 53 RPD5/PMRD/RD5, 54 RD6, 55 RD7, 56 Vcap, 57 Vdd, 58 RPF0/RF0, 59 RPF1/RF1, 60 PMD0/RE0, 61 PMD1/RE1, 62 AN20/PMD2/RE2, 63 RPE3/CTPL2/PMD3/RE3, 64 AN21/PMD4/RE4

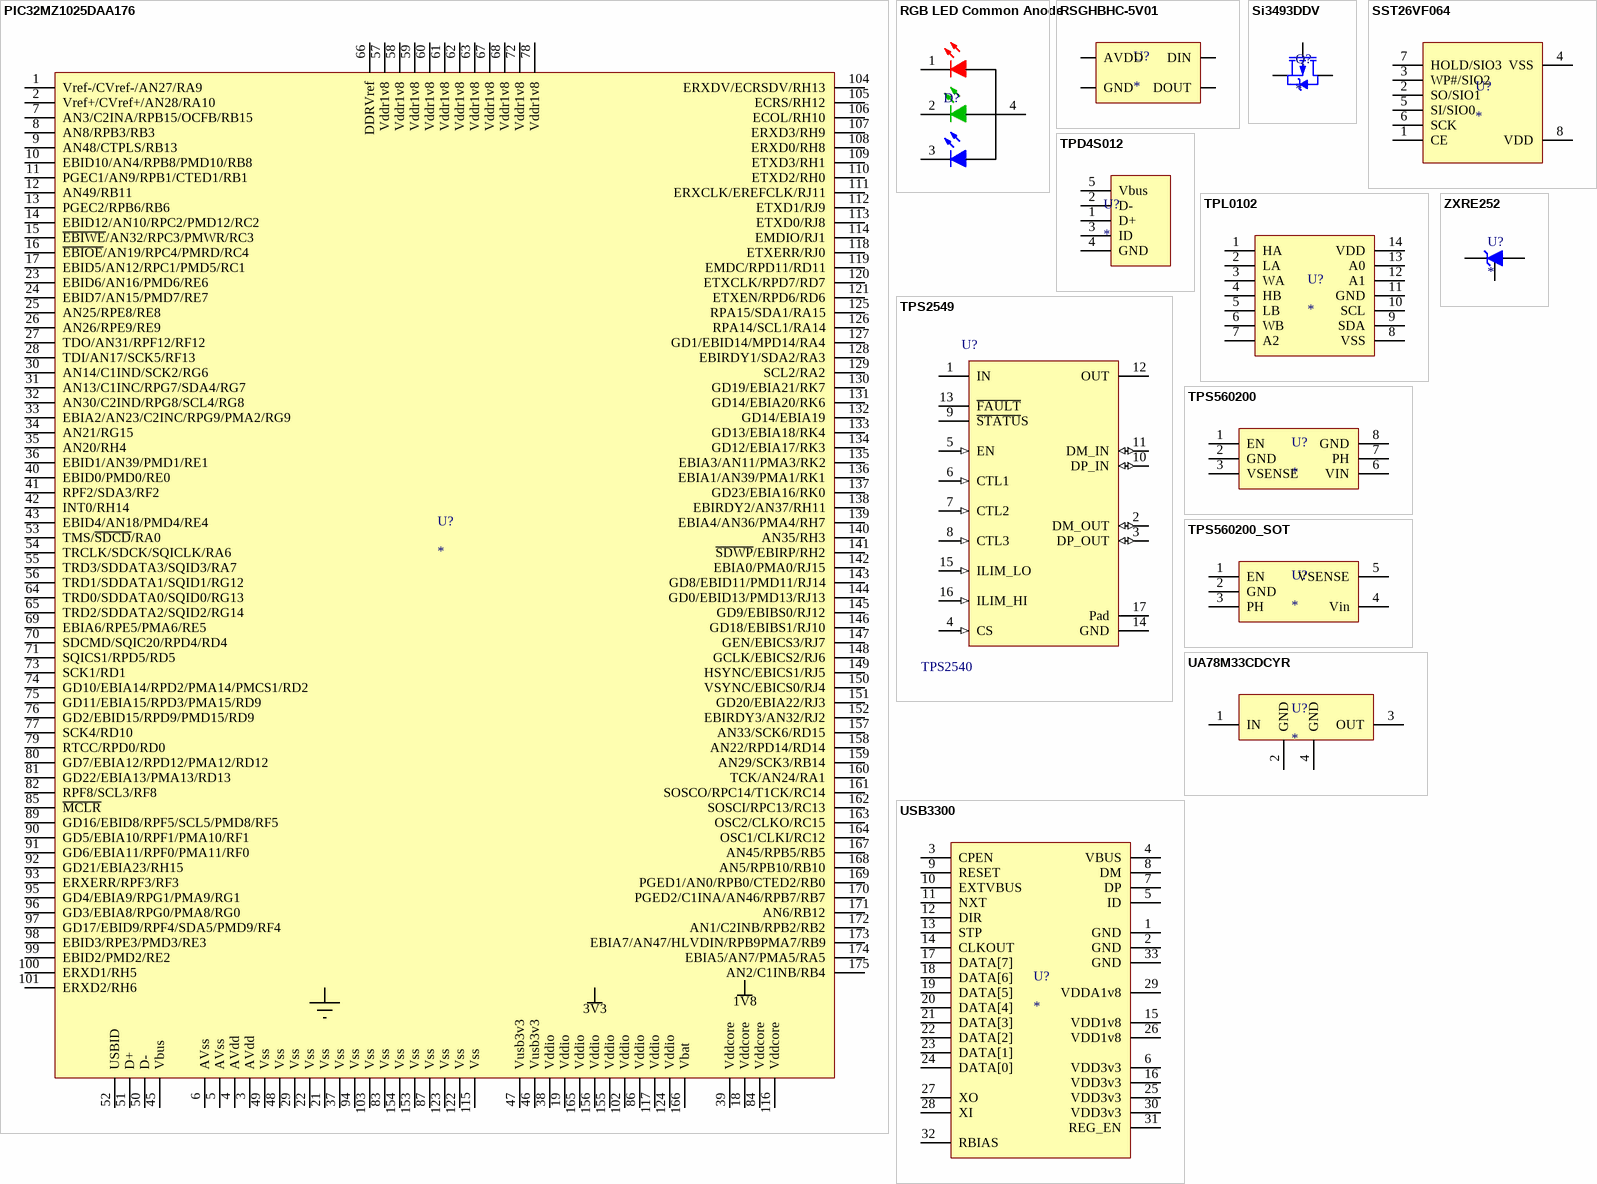
[diagram p4: symbols PIC32MZ1025DAA176 to ZXRE252]

## PIC32MZ1025DAA176
designator U?
footprint QFP176-0_4
pins: 1 Vref-/CVref-/AN27/RA9, 2 Vref+/CVref+/AN28/RA10, 3 AVdd, 4 AVdd, 5 AVss, 6 AVss, 7 AN3/C2INA/RPB15/OCFB/RB15, 8 AN8/RPB3/RB3, 9 AN48/CTPLS/RB13, 10 EBID10/AN4/RPB8/PMD10/RB8, 11 PGEC1/AN9/RPB1/CTED1/RB1, 12 AN49/RB11, 13 PGEC2/RPB6/RB6, 14 EBID12/AN10/RPC2/PMD12/RC2, 15 ~{EBIWE}/AN32/RPC3/PMWR/RC3, 16 ~{EBIOE}/AN19/RPC4/PMRD/RC4, 17 EBID5/AN12/RPC1/PMD5/RC1, 18 Vddcore, 19 Vddio, 21 Vss, 22 Vss, 23 EBID6/AN16/PMD6/RE6, 24 EBID7/AN15/PMD7/RE7, 25 AN25/RPE8/RE8, 26 AN26/RPE9/RE9, 27 TDO/AN31/RPF12/RF12, 28 TDI/AN17/SCK5/RF13, 29 Vss, 30 AN14/C1IND/SCK2/RG6, 31 AN13/C1INC/RPG7/SDA4/RG7, 32 AN30/C2IND/RPG8/SCL4/RG8, 33 EBIA2/AN23/C2INC/RPG9/PMA2/RG9, 34 AN21/RG15, 35 AN20/RH4, 36 EBID1/AN39/PMD1/RE1, 37 Vss, 38 Vddio, 39 Vddcore, 40 EBID0/PMD0/RE0, 41 RPF2/SDA3/RF2, 42 INT0/RH14, 43 EBID4/AN18/PMD4/RE4, 45 Vbus, 46 Vusb3v3, 47 Vusb3v3, 48 Vss, 49 Vss, 50 D-, 51 D+, 52 USBID, 53 TMS/~{SDCD}/RA0, 54 TRCLK/SDCK/SQICLK/RA6, 55 TRD3/SDDATA3/SQID3/RA7, 56 TRD1/SDDATA1/SQID1/RG12, 57 Vddr1v8, 58 Vddr1v8, 59 Vddr1v8, 60 Vddr1v8, 61 Vddr1v8, 62 Vddr1v8, 63 Vddr1v8, 64 TRD0/SDDATA0/SQID0/RG13, 65 TRD2/SDDATA2/SQID2/RG14, 66 DDRVref, 67 Vddr1v8, 68 Vddr1v8, 69 EBIA6/RPE5/PMA6/RE5, 70 SDCMD/SQIC20/RPD4/RD4, 71 SQICS1/RPD5/RD5, 72 Vddr1v8, 73 SCK1/RD1, 74 GD10/EBIA14/RPD2/PMA14/PMCS1/RD2, 75 GD11/EBIA15/RPD3/PMA15/RD9, 76 GD2/EBID15/RPD9/PMD15/RD9, 77 SCK4/RD10, 78 Vddr1v8, 79 RTCC/RPD0/RD0, 80 GD7/EBIA12/RPD12/PMA12/RD12, 81 GD22/EBIA13/PMA13/RD13, 82 RPF8/SCL3/RF8, 83 Vss, 84 Vddcore, 85 ~{MCLR}, 86 Vddio, 87 Vss, 89 GD16/EBID8/RPF5/SCL5/PMD8/RF5, 90 GD5/EBIA10/RPF1/PMA10/RF1, 91 GD6/EBIA11/RPF0/PMA11/RF0, 92 GD21/EBIA23/RH15, 93 ERXERR/RPF3/RF3, 94 Vss, 95 GD4/EBIA9/RPG1/PMA9/RG1, 96 GD3/EBIA8/RPG0/PMA8/RG0, 97 GD17/EBID9/RPF4/SDA5/PMD9/RF4, 98 EBID3/RPE3/PMD3/RE3, 99 EBID2/PMD2/RE2, 100 ERXD1/RH5, 101 ERXD2/RH6, 102 Vddio, 103 Vss, 104 ERXDV/ECRSDV/RH13, 105 ECRS/RH12, 106 ECOL/RH10, 107 ERXD3/RH9, 108 ERXD0/RH8, 109 ETXD3/RH1, 110 ETXD2/RH0, 111 ERXCLK/EREFCLK/RJ11, 112 ETXD1/RJ9, 113 ETXD0/RJ8, 114 EMDIO/RJ1, 115 Vss, 116 Vddcore, 117 Vddio, 118 ETXERR/RJ0, 119 EMDC/RPD11/RD11, 120 ETXCLK/RPD7/RD7, 121 ETXEN/RPD6/RD6, 122 Vss, 123 Vss, 124 Vddio, 125 RPA15/SDA1/RA15, 126 RPA14/SCL1/RA14, 127 GD1/EBID14/MPD14/RA4, 128 EBIRDY1/SDA2/RA3, 129 SCL2/RA2, 130 GD19/EBIA21/RK7, 131 GD14/EBIA20/RK6, 132 GD14/EBIA19, 133 GD13/EBIA18/RK4, 134 GD12/EBIA17/RK3, 135 EBIA3/AN11/PMA3/RK2, 136 EBIA1/AN39/PMA1/RK1, 137 GD23/EBIA16/RK0, 138 EBIRDY2/AN37/RH11, 139 EBIA4/AN36/PMA4/RH7, 140 AN35/RH3, 141 ~{SDWP}/EBIRP/RH2, 142 EBIA0/PMA0/RJ15, 143 GD8/EBID11/PMD11/RJ14, 144 GD0/EBID13/PMD13/RJ13, 145 GD9/EBIBS0/RJ12, 146 GD18/EBIBS1/RJ10, 147 GEN/EBICS3/RJ7, 148 GCLK/EBICS2/RJ6, 149 HSYNC/EBICS1/RJ5, 150 VSYNC/EBICS0/RJ4, 151 GD20/EBIA22/RJ3, 152 EBIRDY3/AN32/RJ2, 153 Vss, 154 Vss, 155 Vddio, 156 Vddio, 157 AN33/SCK6/RD15, 158 AN22/RPD14/RD14, 159 AN29/SCK3/RB14, 160 TCK/AN24/RA1, 161 SOSCO/RPC14/T1CK/RC14, 162 SOSCI/RPC13/RC13, 163 OSC2/CLKO/RC15, 164 OSC1/CLKI/RC12, 165 Vddio, 166 Vbat, 167 AN45/RPB5/RB5, 168 AN5/RPB10/RB10, 169 PGED1/AN0/RPB0/CTED2/RB0, 170 PGED2/C1INA/AN46/RPB7/RB7, 171 AN6/RB12, 172 AN1/C2INB/RPB2/RB2, 173 EBIA7/AN47/HLVDIN/RPB9PMA7/RB9, 174 EBIA5/AN7/PMA5/RA5, 175 AN2/C1INB/RB4
text: 1V8; 3V3

## RGB LED Common Anode
designator D?  (value not drawn)
footprint LED LTST-C19HE1WT
pins: 1 K, 2 K, 3 K, 4 A

## RSGHBHC-5V01
designator U?
footprint LED RSGHBHC-5V01
pins: 1 DOUT, 2 AVDD, 3 DIN, 4 GND

## Si3493DDV
designator Q?
P-Channel MOS
footprint SOT23-6 (SOT23, 6-Leads, Body 2.90x2.80mm, Pitch 0.95mm, IPC Medium Density)
pins: 1 D, 2 D, 3 G, 4 S, 5 D, 6 D

## SST26VF064
designator U?
footprint SOIC8_wide (SOIC, 8-Leads, Body 5.26x5.25mm, Pitch 1.27mm, IPC Medium Density)
pins: 1 CE, 2 SO/SIO1, 3 WP#/SIO2, 4 VSS, 5 SI/SIO0, 6 SCK, 7 HOLD/SIO3, 8 VDD

## TPD4S012
designator U?
pins: 1 D+, 2 D-, 3 ID, 4 GND, 5 Vbus

## TPL0102
designator U?
Digital Potentiometers
footprint SOP65P640X120-14N (TSOP, 14-Leads, Body 5.00x4.40mm, Pitch 0.65mm, IPC Medium Density)
pins: 1 HA, 2 LA, 3 WA, 4 HB, 5 LB, 6 WB, 7 A2, 8 VSS, 9 SDA, 10 SCL, 11 GND, 12 A1, 13 A0, 14 VDD

## TPS2549
designator U?, comment TPS2540
USB Charging Controller with Switch; Supplier 1: Mouser; Supplier Part Number 1: 595-TPS2540RTER; Value: TPS2540
footprint QFN50P300X300X80_HS-17N (QFN, 16-Leads, Body 3.00x3.00mm, Pitch 0.50mm, Thermal Pad 1.70x1.70mm, IPC Medium Density)
pins: 1 IN (power), 2 DM_OUT (io), 3 DP_OUT (io), 4 CS (in) "Changes current limit between ILIM0 and ILIM1", 5 EN (in), 6 CTL1 (in), 7 CTL2 (in), 8 CTL3 (in), 9 ~{STATU}S, 10 DP_IN (io), 11 DM_IN (io), 12 OUT (power), 13 ~{FAULT} (oc), 14 GND (power), 15 ILIM_LO (in), 16 ILIM_HI (in), 17 Pad (power)

## TPS560200
designator U?
footprint DGK VSSOP8
pins: 1 EN, 2 GND, 3 VSENSE, 6 VIN, 7 PH, 8 GND

## TPS560200_SOT
designator U?
footprint SOT23-5 (SOT23, 5-Leads, Body 2.90x2.80mm, Pitch 0.95mm, IPC Medium Density)
pins: 1 EN, 2 GND, 3 PH, 4 Vin, 5 VSENSE

## UA78M33CDCYR
designator U?
footprint SOT223-4 (SOT223, 4-Leads, Body 6.5x3.5mm, Pitch 2.3mm, Lead Span 7mm, IPC Medium Density)
pins: 1 IN, 2 GND, 3 OUT, 4 GND

## USB3300
designator U?
pins: 1 GND, 2 GND, 3 CPEN, 4 VBUS, 5 ID, 6 VDD3v3, 7 DP, 8 DM, 9 RESET, 10 EXTVBUS, 11 NXT, 12 DIR, 13 STP, 14 CLKOUT, 15 VDD1v8, 16 VDD3v3, 17 DATA[7], 18 DATA[6], 19 DATA[5], 20 DATA[4], 21 DATA[3], 22 DATA[2], 23 DATA[1], 24 DATA[0], 25 VDD3v3, 26 VDD1v8, 27 XO, 28 XI, 29 VDDA1v8, 30 VDD3v3, 31 REG_EN, 32 RBIAS, 33 GND

## ZXRE252
designator U?
Diodes Inc precision shunt
footprint SOT95P245X110-3N (SOT23, 3-Leads, Body 2.90x2.45mm, Pitch 0.95mm, IPC Medium Density)
pins: 1 Ref, 2 K, 3 A